# Altium integrated library Linear Technology PMIC-Switching Reg LTC1174-LTC3901.IntLib: 2647 symbols (part 211 of 310)
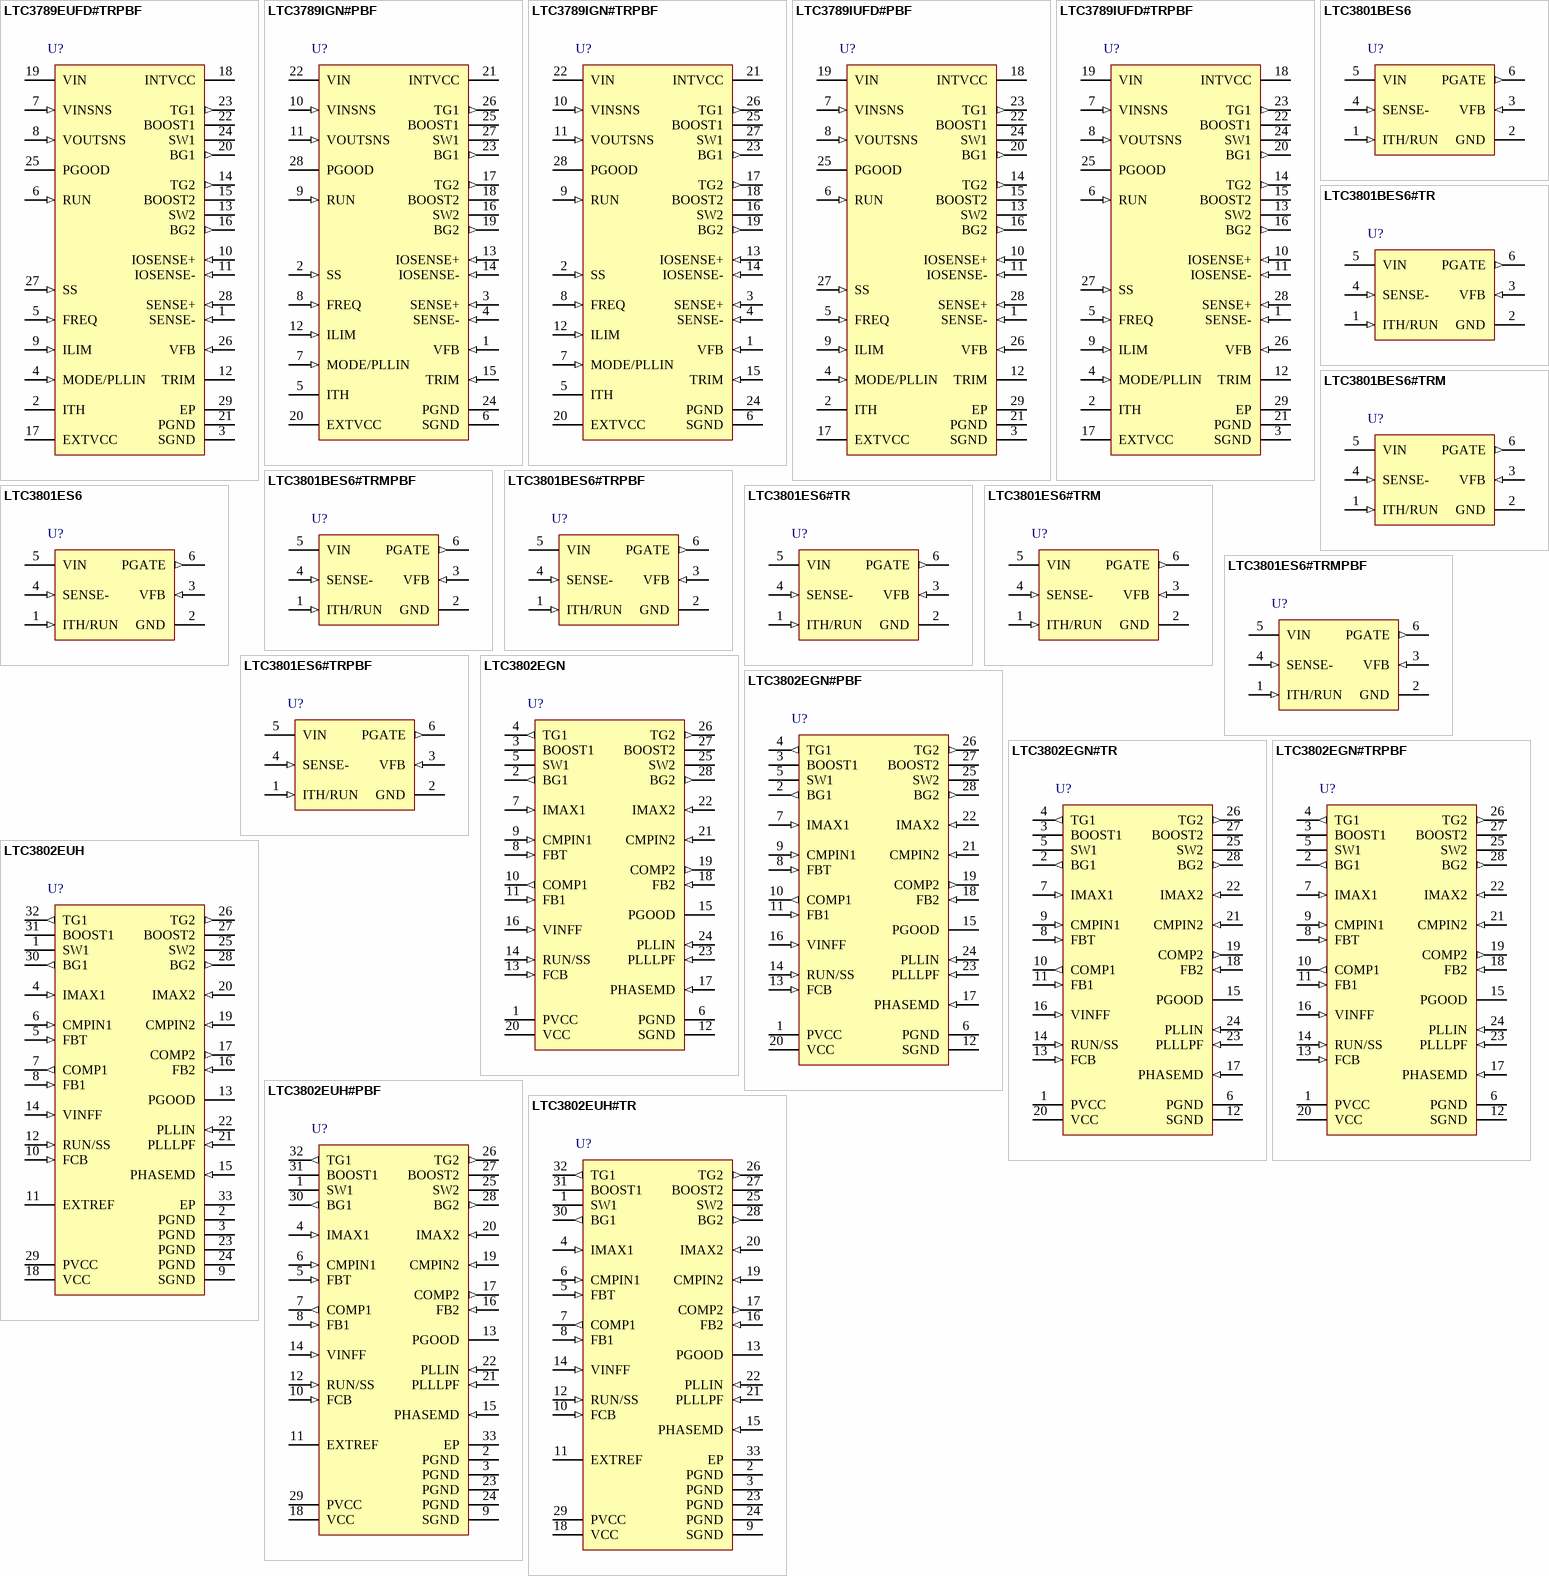
[diagram p339: symbols LTC3789EUFD#TRPBF to LTC3802EUH#TR]

## LTC3802EGN
designator U?
Dual 550 kHz Synchronous 2-Phase DC/DC Controller with Programmable Up / Down Tracking, 28-pin SOP (GN-28), -40 to 85 degC; Manufacturer: Linear Technology; PartNumber: LTC3802EGN; Number of Outputs: 2; PackageReference: GN-28; PackageDescription: 28-Pin Plastic SSOP, Body 9.9 x 3.9 mm, Pitch 0.635 mm; RoHS: FALSE
footprint LT-GN-28_N (SOP, 28-Leads, Body 9.98x3.98mm, Pitch 0.635mm, IPC Medium Density)
footprint LT-GN-28_L (SOP, 28-Leads, Body 9.98x3.98mm, Pitch 0.635mm, IPC High Density)
footprint LT-GN-28_M (SOP, 28-Leads, Body 9.98x3.98mm, Pitch 0.635mm, IPC Low Density)
pins: 1 PVCC (power) "Driver Power Supply Input. PVCC provides power to the two BG drivers and must be connected to an external voltage high enough to fully turn on the external MOSFETs, QB1 and QB2. PVCC requires at least a 10uF bypass capacitor (See Datasheet)", 2 BG1 (out) "Channel 1 Controller Bottom Gate Drive. The BG1 pin drives the gate of the bottom N-channel synchronous switch MOSFET, QB1. BG1 is designed to drive typically up to 10,000pF of gate capacitance.", 3 BOOST1 "Channel 1 Controller Top Gate Driver Supply. BOOST1 should be bootstrapped to SW1 with a 0.1uF capacitor. An external Schottky diode from PVCC to BOOST1 creates a complete floating chargepumped supply at BOOST1. No other (See Datasheet)", 4 TG1 (out) "Channel 1 Controller Top Gate Drive. The TG1 pin drives the top N-channel MOSFET with a voltage swing equal to PVCC superimposed on the switch node voltage SW1. TG1 is designed to drive typically up to 6000pF of gate (See Datasheet)", 5 SW1 "Channel 1 Controller Switching Node. Connect SW1 to the switching node of the channel 1 converter. When the bottom MOSFET QB1 turns on, the current limit comparator and the burst comparator monitor the voltage at SW1. If the (See Datasheet)", 6 PGND (power) "Power Ground. The BG drivers return to this pin. Connect PGND to a high current ground node in close proximity to the sources of external MOSFETs QB1 and QB2 and the VIN, PVCC and VOUT bypass capacitors.", 7 IMAX1 (in) "Channel 1 Controller Current Limit Set. The IMAX1 pin has an internal 10mA current source pull-up, allowing the current limit and burst comparator threshold to be programmed by a single external resistor to SGND. See Current (See Datasheet)", 8 FBT (in) "Feedback Tracking Input. FBT should be connected through a resistive divider network to VOUT1 to set the channel 1 output slew rate. Upon power-up/-down, the LTC3802 servos FBT and CMPIN2 to the same potential to control the (See Datasheet)", 9 CMPIN1 (in) "Channel 1 Controller Comparators Input. CMPIN1 should be connected through a resistive divider network to VOUT1 to monitor its real time output voltage. To improve transient response, a feedforward capacitor can be added to (See Datasheet)", 10 COMP1 (out) "Channel 1 Controller Error Amplifier Output. The COMP1 pin is connected directly to the channel 1 error amplifier output and the input of the line feedforward circuit. Use an RC network between the COMP1 pin and the FB1 pin (See Datasheet)", 11 FB1 (in) "Channel 1 Controller Error Amplifier Input. FB1 should be connected through a resistive divider network to VOUT1 to set the channel 1 switcher output voltage. Also, connect the channel 1 switcher loop compensation network to (See Datasheet)", 12 SGND (power) "Signal Ground. All the internal low power circuitry returns to the SGND pin. Connect to a low impedance ground, separated from the PGND node. All feedback, compensation and soft-start connections should return to SGND. SGND (See Datasheet)", 13 FCB (in) "Force Continuous Bar. Internally pulled high. When FCB is shorted to GND, the controller forces both converters to maintain continuous synchronous operation regardless of load current.", 14 RUN/SS (in) "Run Control and Soft-Start Input. An internal 7mA current source pull-up and an external capacitor to ground at this pin sets the start-up delaly (approximately 300ms/mF), the output ramp rate and the time delay for soft (See Datasheet)", 15 PGOOD (oc) "Open-Drain Power Good Output. PGOOD is pulled to ground under shutdown condition or when any switcher output voltage is not within +/-10% of its set point .", 16 VINFF (in) "Line Feedforward Compensation Input. Connects to the VIN power supply to provide line feedforward compensation. A change in VIN immediately modulates the input to the PWM comparator and changes the pulse width in an (See Datasheet)", 17 PHASEMD (in) "Phase Selector Input. This pin determines the phase relationships between controller?, controller 2 and the PLLIN signal. When PHASEMD is floating, its value is around 2V, and the internal phaselocked loop synchronizes the(See Datasheet)", 18 FB2 (in) "Channel 2 Controller Error Amplifier Input. See FB1.", 19 COMP2 (out) "Channel 2 Controller Error Amplifier Output. See COMP1.", 20 VCC (power) "Power Supply Input. All the internal circuits except the switcher output drivers are powered from this pin. VCC should be connected to a low noise 5V supply and should be bypassed to SGND with at least a 10uF capacitor in (See Datasheet)", 21 CMPIN2 (in) "Channel 2 Controller Comparators Input. See CMPIN1.", 22 IMAX2 (in) "Channel 2 Controller Current Limit Set. See IMAX1.", 23 PLLLPF (in) "Phase-Locked Loop Lowpass Filter. The phase-locked loop’s lowpass filter is tied to this pin. Alternatively, this pin can be driven with an AC or DC voltage source to vary the frequency of the internal oscillator.", 24 PLLIN (in) "Phase-Locked Loop Input/External Synchronization Input to the Phase Detector. The falling edge of this signal is used for frequency synchronization. When PLLIN floats or shorts to ground, the controllers free run at 550kHz.", 25 SW2 "Channel 2 Controller Switching Node. See SW1.", 26 TG2 (out) "Channel 2 Controller Top Gate Drive. See TG1.", 27 BOOST2 "Channel 2 Controller Top Gate Driver Supply. See BOOST1.", 28 BG2 (out) "Channel 2 Controller Bottom Gate Drive. See BG1."